# Altium footprint library TSSOP.PcbLib: 2 footprints
Each footprint in its own frame and in the unit in brackets; x right, y up, seen from the top. Pads: shape width x height; smd on the part's side, far side on the other; paste and mask are expansions set on the pad; w line width, h text height; cw(c..) or ccw(c..) is an arc to the next point about the centre after c.
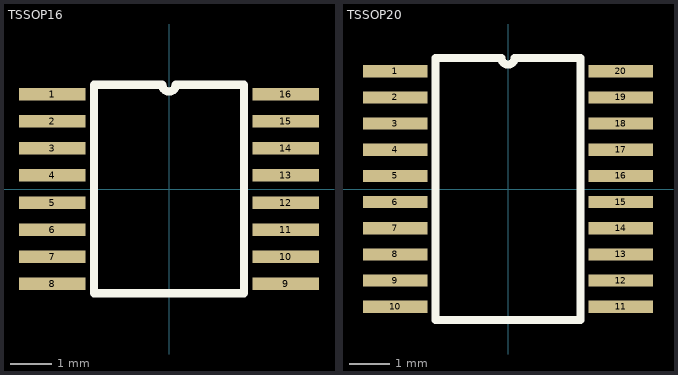
[diagram p0: the footprints below, top view; thin cyan lines are the x and y axes]

## TSSOP16 [mm] "TSSOP 16 Pin"
height 1.2
pads (16):
  rect 1.6x0.3 smd: 1(-2.8,2.275) 2(-2.8,1.625) 3(-2.8,0.975) 4(-2.8,0.325) 5(-2.8,-0.325) 6(-2.8,-0.975) 7(-2.8,-1.625) 8(-2.8,-2.275) 9(2.8,-2.275) 10(2.8,-1.625) 11(2.8,-0.975) 12(2.8,-0.325) 13(2.8,0.325) 14(2.8,0.975) 15(2.8,1.625) 16(2.8,2.275)
Top Overlay:
  lines w0.2: -0.175,2.5 -0.913,2.5 -1.8,2.5 -1.8,-2.5 1.8,-2.5 1.8,2.5 0.913,2.5 0.175,2.5 ; -0.162,2.5 ccw(c0,2.5) 0.163,2.5
3D body "TSSOP16.STEP": height 1.28, standoff 0, extent -3.2,-2.5 3.2,2.5

## TSSOP20 [mm] "TSSOP 20 Pin"
height 1.2
pads (20):
  rect 1.6x0.3 smd: 1(-2.8,2.925) 2(-2.8,2.275) 3(-2.8,1.625) 4(-2.8,0.975) 5(-2.8,0.325) 6(-2.8,-0.325) 7(-2.8,-0.975) 8(-2.8,-1.625) 9(-2.8,-2.275) 10(-2.8,-2.925) 11(2.8,-2.925) 12(2.8,-2.275) 13(2.8,-1.625) 14(2.8,-0.975) 15(2.8,-0.325) 16(2.8,0.325) 17(2.8,0.975) 18(2.8,1.625) 19(2.8,2.275) 20(2.8,2.925)
Top Overlay:
  lines w0.2: -1.8,-3.25 -1.8,3.25 -0.162,3.25 ccw(c0,3.25) 0.162,3.25 1.8,3.25 1.8,-3.25 -1.8,-3.25
3D body "TSSOP20.STEP": height 1.28, standoff 0, extent -3.2,-3.25 3.2,3.25